# Altium integrated library Mini_USB_CR.IntLib: 1 symbol
Pins are listed as number, name and electrical type; pins without a type are passive.

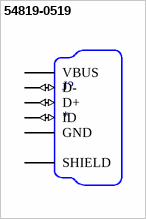
[diagram p0: symbol 54819-0519]

## 54819-0519
designator J?
USB - mini B USB 2.0 OTG Receptacle Connector 5 Position Through Hole, Right Angle; MP: 54819-0519; MF: Molex; Availability: Good; Purchase-URL: https://pricing.snapeda.com/search/part/54819-0519/?ref=eda; Value: *; Check_prices: https://www.snapeda.com/parts/54819-0519/Molex/view-part/13744/?ref=eda; SnapEDA_Link: https://www.snapeda.com/parts/54819-0519/Molex/view-part/13744/?ref=snap; Price: None; Package: None
footprint MOLEX_54819-0519
pins: 1 VBUS (power), 2 D- (io), 3 D+ (io), 4 ID (io), 5 GND (power), 6 VBUS (power), 7 D- (io), 8 D+ (io), 9 ID (io), 10 GND (power), 11 SHIELD, 12 SHIELD, S1 SHIELD, S2 SHIELD